# Altium footprint library WANGYU92100PcbLib.PcbLib: 392 footprints (part 21 of 25)
Each footprint in its own frame and in the unit in brackets; x right, y up, seen from the top. Pads: shape width x height; smd on the part's side, far side on the other; paste and mask are expansions set on the pad; w line width, h text height; cw(c..) or ccw(c..) is an arc to the next point about the centre after c.
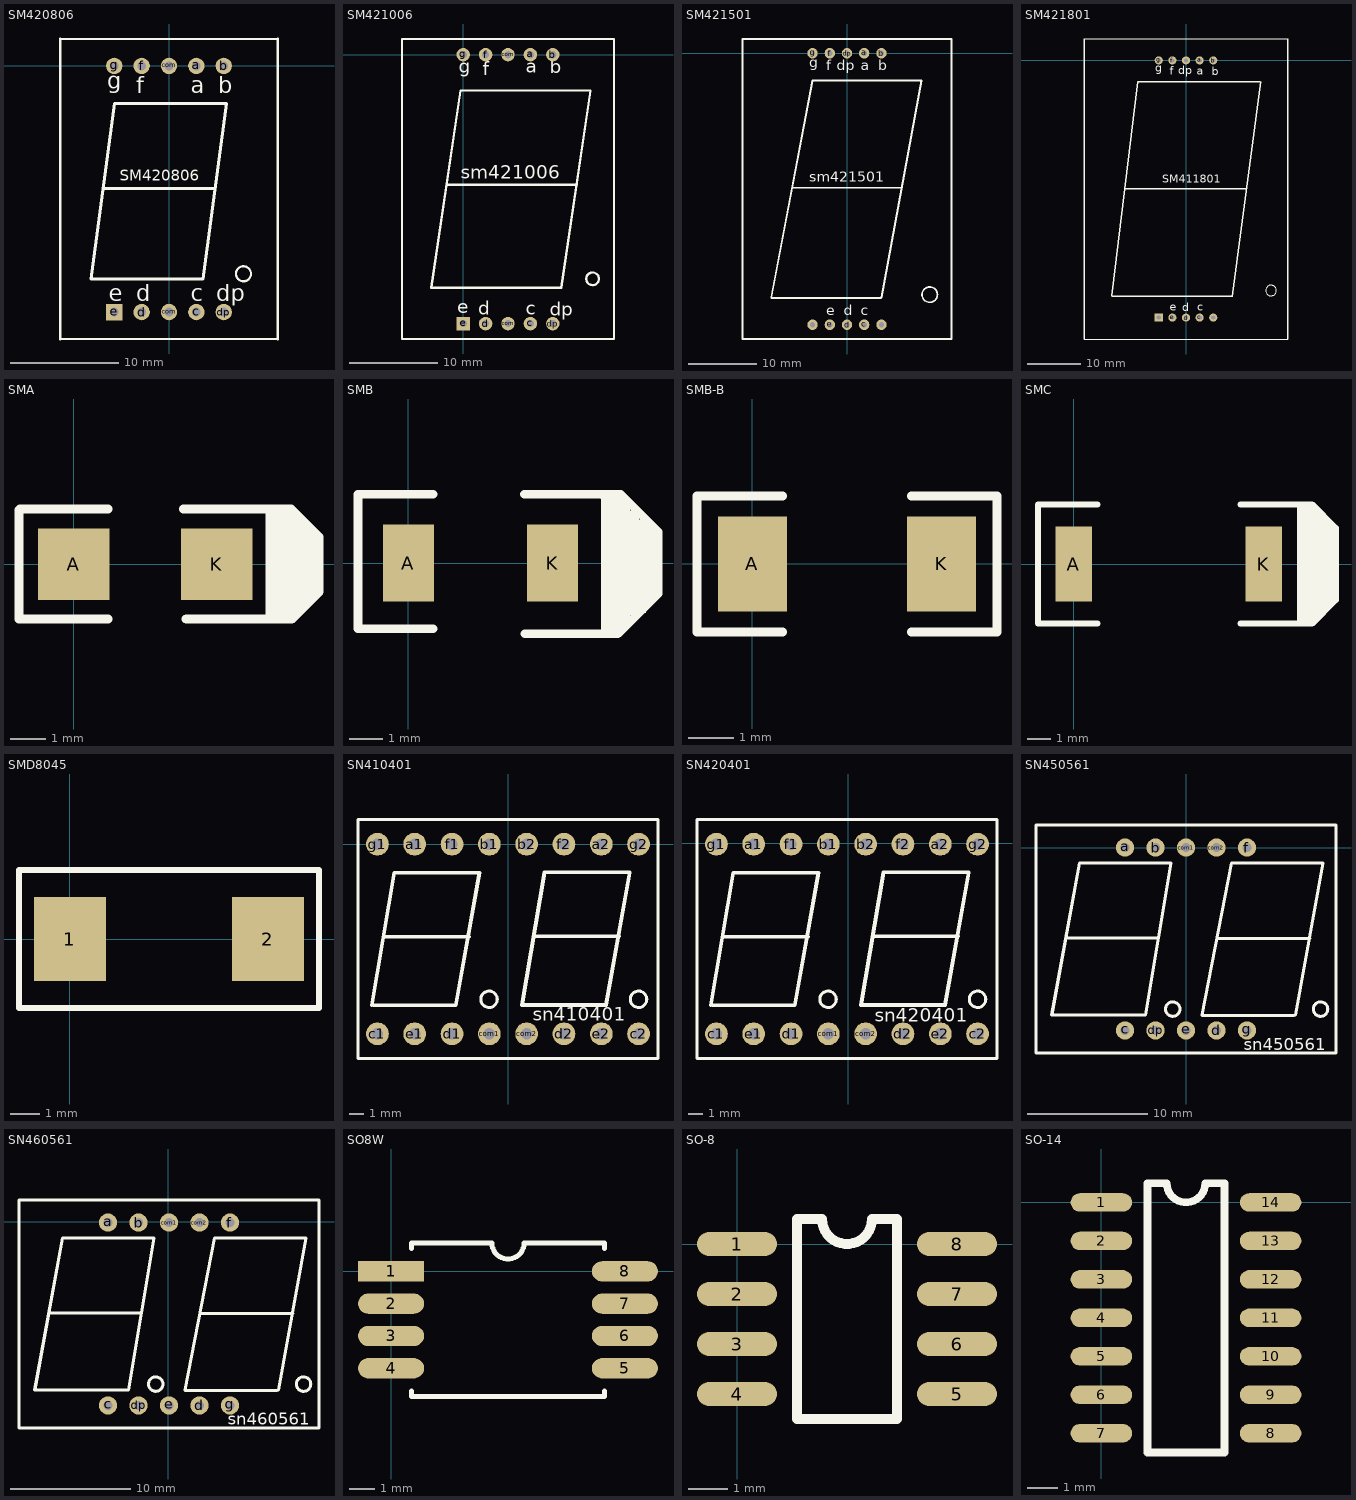
[diagram p20: the footprints below, top view; thin cyan lines are the x and y axes]

## SM420806 [mil]
pads (10):
  round 60 hole 32: a(100,0) b(200,0) c(100,-900) com(0,-900) com(0,0) d(-100,-900) dp(200,-900) f(-100,0) g(-200,0)
  rect 60x60 hole 32: e(-200,-900)
Top Overlay:
  circle w8: c272.44,-760 r27.56
  lines w8: -397.64,-998.42 397.64,-998.42 ; -397.64,98.42 397.64,98.42 ; -242.2,-444.37 -238.26,-448.31 ; 167.25,-448.31 171.19,-444.37
  lines w10: -397.64,-998.42 -397.64,98.42 ; -238.26,-448.31 167.25,-448.31 ; 397.64,-998.42 397.64,98.42 ; -285.5,-779.02 -198.89,-137.28 210.56,-137.28 123.94,-779.02 -285.5,-779.02
  text "d" at -120,-860 h60
  text "c" at 80,-860 h60
  text "dp" at 172,-861 h60
  text "e" at -220,-860 h60
  text "b" at 180,-100 h60
  text "a" at 80,-100 h60
  text "f" at -120,-100 h60
  text "g" at -225.87,-83.3 h60
  text "SM420806" at -180,-420 h40

## SM421006 [mil]
pads (10):
  round 60 hole 32: a(299.87,-0.44) b(399.87,-0.44) c(299.87,-1200.52) com(199.87,-1200.52) com(199.87,-0.44) d(99.87,-1200.52) dp(399.87,-1200.52) f(99.87,-0.44) g(-0.13,-0.44)
  rect 60x60 hole 32: e(-0.13,-1200.52)
Top Overlay:
  circle w10: c577.43,-1000.52 r28.28
  lines w10: -72.57,-580.52 507.43,-580.52 ; 199.87,69.48 -272.57,69.48 ; -272.57,69.48 -272.57,-1269.1 672.32,-1269.1 ; -272.57,69.48 672.32,69.48 ; 672.32,-1269.1 672.32,69.48 ; 672.31,-1269.1 672.31,69.48 ; -142.57,-1040.52 -12.57,-160.52 567.43,-160.52 437.43,-1040.52 -142.57,-1040.52
  text "sm421006" at -10,-555 h60
  text "d" at 68,-1162 h60
  text "c" at 278,-1160 h60
  text "dp" at 386,-1166 h60
  text "b" at 386,-84 h60
  text "a" at 280,-82 h60
  text "f" at 88,-92 h60
  text "g" at -20,-80 h60
  text "e" at -26,-1154 h60

## SM421501 [mil]
pads (10):
  round 60 hole 31.5: a(100,0) b(200,0) c(100,-1574.8) com(-200,-1574.8) com(200,-1574.8) d(0,-1574.8) dp(0,0) e(-100,-1574.8) f(-100,0) g(-200,0)
Top Overlay:
  circle w10: c480,-1400 r44.72
  lines w10: -440.07,-1417.32 -200,-157.48 432.22,-157.48 200,-1417.32 ; -440,-1420 197.32,-1420 ; -312.99,-780 320,-780 ; -606.3,-1657.48 -606.3,82.68 606.3,82.68 606.3,-1657.48 -606.3,-1657.48
  text "sm421501" at -220,-745 h60
  text "f" at -120,-100 h60
  text "g" at -220,-80 h60
  text "c" at 80,-1520 h60
  text "d" at -20,-1520 h60
  text "e" at -120,-1520 h60
  text "dp" at -60,-100 h60
  text "a" at 80,-100 h60
  text "b" at 180,-100 h60

## SM421801 [mil]
pads (10):
  round 60 hole 32: a(100,0) b(200,0) c(100,-1889.76) com(200,-1889.76) d(0,-1889.76) dp(0,0) e(-100,-1889.76) f(-100,0) g(-200,0)
  rect 60x60 hole 32: com(-200,-1889.76)
Top Overlay:
  circle w8: c624.63,-1691 r39.37
  lines w8: -748.03,-2047.24 748.03,-2047.24 ; -748.03,157.48 748.03,157.48
  lines w10: -748.03,-2047.24 -748.03,157.48 ; -545,-1732.28 342.52,-1732.28 ; -545,-1728 -355.02,-157.48 544.2,-157.48 ; -451,-943 445,-943 ; 341.23,-1732.28 549,-157.48 ; 748.03,-2047.24 748.03,157.48
  text "SM411801" at -175,-900 h59.05
  text "d" at -27,-1843 h60
  text "c" at 83,-1838 h60
  text "dp" at -58,-100 h60
  text "e" at -121,-1838 h60
  text "b" at 188,-110 h60
  text "a" at 78,-105 h60
  text "f" at -121,-105 h60
  text "g" at -226,-84 h60

## SMA [mm]
pads (2):
  rect 2x2 smd: A(0,0) K(4,0)
Top Overlay:
  rectangle: 6.35,-0.762 6.858,-0.381
  rectangle: 6.325,-0.61 6.858,0.762
  rectangle: 6.223,-1.118 6.625,0.995
  rectangle: 5.486,-1.295 6.379,1.241
  rectangle: 5.486,-1.473 6.147,1.524
  lines w0.254: -1.524,1.524 -1.524,-1.524 0.965,-1.524 ; -1.499,1.549 0.965,1.549 ; 3.073,1.549 5.486,1.549 6.02,1.549 6.071,1.549 6.833,0.787 6.858,0.762 6.858,-0.762 6.147,-1.473 6.096,-1.524 5.486,-1.524 ; 3.15,-1.524 5.486,-1.524 ; 5.486,1.524 5.486,-1.524 ; 6.262,1.358 6.262,1.033 6.262,0.825 6.431,0.995 6.498,0.995 6.858,0.635 ; 6.579,-0.838 6.579,-0.61

## SMB [mm]
pads (2):
  rect 1.52x2.3 smd: A(0,0) K(4.3,0)
Top Overlay:
  rectangle: 5.867,-2.108 6.248,1.956
  rectangle: 6.248,-1.981 6.376,1.956
  rectangle: 6.376,-1.864 6.492,1.956
  rectangle: 6.492,-1.864 6.601,1.781
  rectangle: 6.756,-1.482 6.875,1.626
  rectangle: 6.528,-1.565 6.791,1.575
  rectangle: 6.756,-1.482 7.083,1.299
  rectangle: 6.833,-1.092 7.442,0.94
  rectangle: 7.041,0.737 7.214,1.341
  rectangle: 7.191,0.737 7.214,1.191
  rectangle: 7.041,0.737 7.366,1.016
  lines w0.254: 0.744,-1.956 -1.499,-1.956 -1.499,2.057 0.749,2.057 ; 3.457,2.057 5.766,2.057 ; 3.475,-2.108 5.867,-2.108 ; 5.766,2.057 5.867,1.956 5.867,-2.108 ; 5.766,2.057 6.325,2.057 7.366,1.016 7.442,0.94 7.442,-0.914 6.248,-2.108 5.867,-2.108

## SMB-B [mil]
pads (2):
  rect 60x82 smd: A(0,0) K(164,0)
Top Overlay:
  lines w8: 26,-59 -48,-59 -48,59 26,59 ; 138,-59 212,-59 212,59 138,59

## SMC [mm]
pads (2):
  rect 1.55x3.2 smd: A(0,0) K(8.1,0)
Top Overlay:
  rectangle: 10.033,2.286 10.332,2.368
  rectangle: 10.344,1.975 10.552,2.148
  rectangle: 10.668,1.685 10.937,1.763
  rectangle: 10.611,1.708 10.798,1.902
  rectangle: 10.668,1.27 11.015,1.685
  rectangle: 10.541,-1.905 10.795,-1.397
  rectangle: 10.287,1.27 10.668,2.032
  rectangle: 9.906,-2.286 10.541,-1.397
  rectangle: 10.033,1.397 10.414,2.286
  rectangle: 10.16,-1.524 11.176,1.524
  rectangle: 9.652,-2.54 10.16,2.54
  lines w0.254: 1.016,-2.54 -1.524,-2.54 -1.524,2.54 1.016,2.54 ; 7.112,-2.54 9.652,-2.54 ; 7.112,2.54 9.652,2.54 ; 10.033,2.286 10.922,1.397 ; 10.922,-1.524 10.16,-2.286 10.16,-2.54 ; 9.652,-2.54 10.16,-2.54 ; 9.652,-2.54 9.652,2.54 ; 9.652,2.54 10.16,2.54 ; 10.16,-2.54 11.176,-1.524 11.176,1.524 ; 10.16,2.54 11.176,1.524 ; 10.16,2.54 11.176,1.524

## SMD8045 [mm]
pads (2):
  rect 2.4x2.8 smd: 1(0,0) 2(6.6,0)
Top Overlay:
  lines w0.203: -1.7,-2.3 -1.7,2.3 8.253,2.3 ; -1.653,-2.3 8.3,-2.3 8.3,2.3

## SN410401 [mil]
pads (16):
  round 60 hole 30: a1(-246.06,0) a2(246.06,0) b1(-49.21,0) b2(49.21,0) c1(-344.49,-500) c2(344.49,-500) com1(-49.21,-500) com2(49.21,-500) d1(-147.64,-500) d2(147.64,-500) e1(-246.06,-500) e2(246.06,-500) f1(-147.64,0) f2(147.64,0) g1(-344.49,0) g2(344.49,0)
Top Overlay:
  circle w8: c344.35,-409 r21.65
  circle w8: c-50,-409 r21.65
  lines w8: -395.67,-564.96 395.67,-564.96 395.67,64.96 -395.67,64.96 -395.67,-564.96
  lines w10: -359.15,-425 -300,-75 -75,-75 -137.63,-425 ; -354,-425 -137.79,-425 ; -328,-244 -103,-244 ; 36.85,-424 96,-74 321,-74 258.37,-424 ; 42,-424 258.2,-424 ; 68,-243 293,-243
  text "sn410401" at 65,-465 h35.43

## SN420401 [mil]
pads (16):
  round 60 hole 30: a1(-249.06,-2) a2(243.06,-2) b1(-52.21,-2) b2(46.21,-2) c1(-347.49,-502) c2(341.49,-502) com1(-52.21,-502) com2(46.21,-502) d1(-150.64,-502) d2(144.64,-502) e1(-249.06,-502) e2(243.06,-502) f1(-150.64,-2) f2(144.64,-2) g1(-347.49,-2) g2(341.49,-2)
Top Overlay:
  circle w8: c-53,-411 r21.65
  circle w8: c341.35,-411 r21.65
  lines w8: -398.67,-566.96 -398.67,62.96 392.67,62.96 392.67,-566.96 -398.67,-566.96
  lines w10: -362.15,-427 -303,-77 -78,-77 -140.63,-427 ; -357,-427 -140.79,-427 ; -331,-246 -106,-246 ; 33.85,-426 93,-76 318,-76 255.37,-426 ; 39,-426 255.21,-426 ; 65,-245 290,-245
  text "sn420401" at 70,-470 h35.43

## SN450561 [mil]
pads (10):
  round 60 hole 30: a(-200,0) b(-100,0) c(-200,-600) com1(0,0) com2(100,0) d(100,-600) dp(-100,-600) e(0,-600) f(200,0) g(200,-600)
Top Overlay:
  circle w10: c-43.62,-530 r23.62
  circle w10: c441.38,-530 r23.62
  lines w10: -440.46,-550 -350,-50 -50,-50 -133.5,-550 -437.01,-550 ; -394,-297 -91,-297 ; 52.58,-550 150,-50 350,-50 450,-50 359.54,-550 ; 53.05,-551 354.33,-551 ; 101,-298 406,-298 ; -492.13,-674.02 492.13,-674.02 492.13,74.02 -492.13,74.02 -492.13,-674.02
  text "sn450561" at 190,-665 h39.37

## SN460561 [mil]
pads (10):
  round 60 hole 30: a(-198,-2) b(-98,-2) c(-198,-602) com1(2,-2) com2(102,-2) d(102,-602) dp(-98,-602) e(2,-602) f(202,-2) g(202,-602)
Top Overlay:
  circle w10: c443.38,-532 r23.62
  circle w10: c-41.62,-532 r23.62
  lines w10: -438.46,-552 -348,-52 -48,-52 -131.5,-552 -435.01,-552 ; -392,-299 -89,-299 ; 54.58,-552 152,-52 352,-52 452,-52 361.54,-552 ; 55.05,-553 356.33,-553 ; 103,-300 408,-300 ; -490.13,-676.02 -490.13,72.02 494.13,72.02 494.13,-676.02 -490.13,-676.02
  text "sn460561" at 195,-665 h39.37

## SO8W [mm]
pads (8):
  rect 2.6x0.8 smd: 1(0,0)
  oval 2.6x0.8 smd: 2(0,-1.27) 3(0,-2.54) 4(0,-3.81) 5(9.2,-3.81) 6(9.2,-2.54) 7(9.2,-1.27) 8(9.2,0)
Top Overlay:
  lines w0.2: 0.8,-4.71 0.8,-4.93 8.4,-4.93 8.4,-4.71 ; 0.8,0.9 0.8,1.12 3.965,1.12 ccw(c4.6,1.12) 5.235,1.12 8.4,1.12 8.4,0.9

## SO-8 [mil]
pads (8):
  oval 80x24 smd: 1(0,0) 2(0,-50) 3(0,-100) 4(0,-150) 5(220,-150) 6(220,-100) 7(220,-50) 8(220,0)
Top Overlay:
  lines w10: 60,-175 60,25 85,25 ccw(c110,25) 135,25 160,25 160,-175 60,-175

## SO-14 [mil]
pads (14):
  oval 80x24 smd: 1(0,0) 2(0,-50) 3(0,-100) 4(0,-150) 5(0,-200) 6(0,-250) 7(0,-300) 8(220,-300) 9(220,-250) 10(220,-200) 11(220,-150) 12(220,-100) 13(220,-50) 14(220,0)
Top Overlay:
  lines w10: 60,-325 160,-325 160,25 135,25 cw(c110,25) 85,25 60,25 60,-325